# EAGLE library part UCC287508DBVR (library UCC287508DBVR)
Converter Offline Flyback, Secondary Side SR Topology 100kHz SOT-23-6 Source: Datasheet <https://www.ti.com/lit/ds/symlink/ucc28750.pdf?ts=1759323086966&ref_url=https%3A%2F%2Fwww.ti.com%2Fproduct%2FUCC28750>
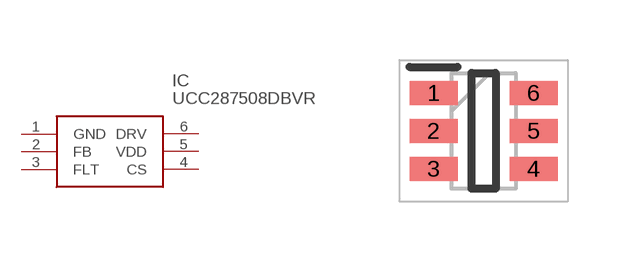
[diagram p0: symbol with the pads of SOT95P280X145-6N; footprint SOT95P280X145-6N]

Designator prefix IC

## UCC287508DBVR (Description: Converter Offline Flyback, Secondary Side SR Topology 100kHz SOT-23-6; Height: 1.45mm; Manufacturer_Name: Texas Instruments; Manufacturer_Part_Number: UCC287508DBVR)  [SOT95P280X145-6N]
1  GND
2  FB
3  FLT
4  CS
5  VDD
6  DRV

## Footprint SOT95P280X145-6N (pad centres in mm)
DBV0006A
smd 1.2 x 0.6: 1 -1.25,0.95; 2 -1.25,0; 3 -1.25,-0.95; 4 1.25,-0.95; 5 1.25,0; 6 1.25,0.95